# EAGLE library part DIP-BLACK-MALE-HEADER-VERT(9P-2.54) (library Seeed-OPL-Connector)
320020099
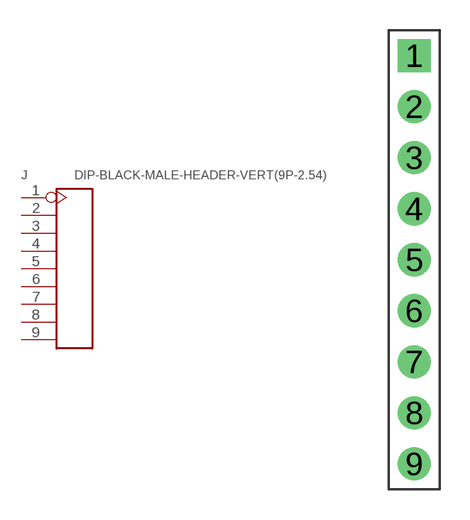
[diagram p113: symbol with the pads of H9-2.54; footprint H9-2.54]

Designator prefix J

## DIP-BLACK-MALE-HEADER-VERT(9P-2.54) (MPN: P125-1109A0BS116AX; VALUE: 9p-2.54)  [H9-2.54]
1  1
2  2
3  3
4  4
5  5
6  6
7  7
8  8
9  9

## Footprint H9-2.54 (pad centres in mm)
drill 0.889 pad 1.651 square: 1 0,10.16
drill 0.889 pad 1.651: 2 0,7.62; 3 0,5.08; 4 0,2.54; 5 0,0; 6 0,-2.54; 7 0,-5.08; 8 0,-7.62; 9 0,-10.16